# Altium schematic symbol library 5015680807.SchLib: 1 symbol
Pins are listed as number, name and electrical type; pins without a type are passive.

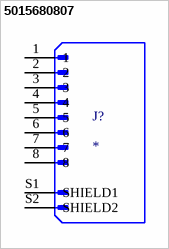
[diagram p0: symbol 5015680807]

## 5015680807
designator J?
MP: 5015680807; Availability: Unavailable; Value: *; Price: None; Package: None
footprint MOLEX_5015680807
pins: 1, 2, 3, 4, 5, 6, 7, 8, S1 SHIELD1, S2 SHIELD2